# Altium schematic symbol library Sch_Bourns.SchLib: 3 symbols
Pins are listed as number, name and electrical type; pins without a type are passive.

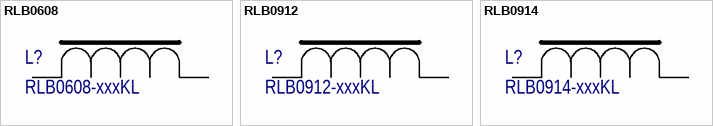
[diagram p0: symbols RLB0608 to RLB0914]

## RLB0608
designator L?, comment RLB0608-xxxKL
Magnetics - fixed inductor through hole; Manufacturer: Bourns; Part Number: RLB0608-xxxKL
footprint RLB0608
pins: 1, 2

## RLB0912
designator L?, comment RLB0912-xxxKL
Magnetics - fixed inductor through hole; Manufacturer: Bourns; Part Number: RLB0912-xxxKL
footprint RLB0912
pins: 1, 2

## RLB0914
designator L?, comment RLB0914-xxxKL
Magnetics - fixed inductor through hole; Manufacturer: Bourns; Part Number: RLB0914-xxxKL
footprint RLB0912
pins: 1, 2